# Altium schematic symbol library Other.SchLib: 19 symbols
Pins are listed as number, name and electrical type; pins without a type are passive.

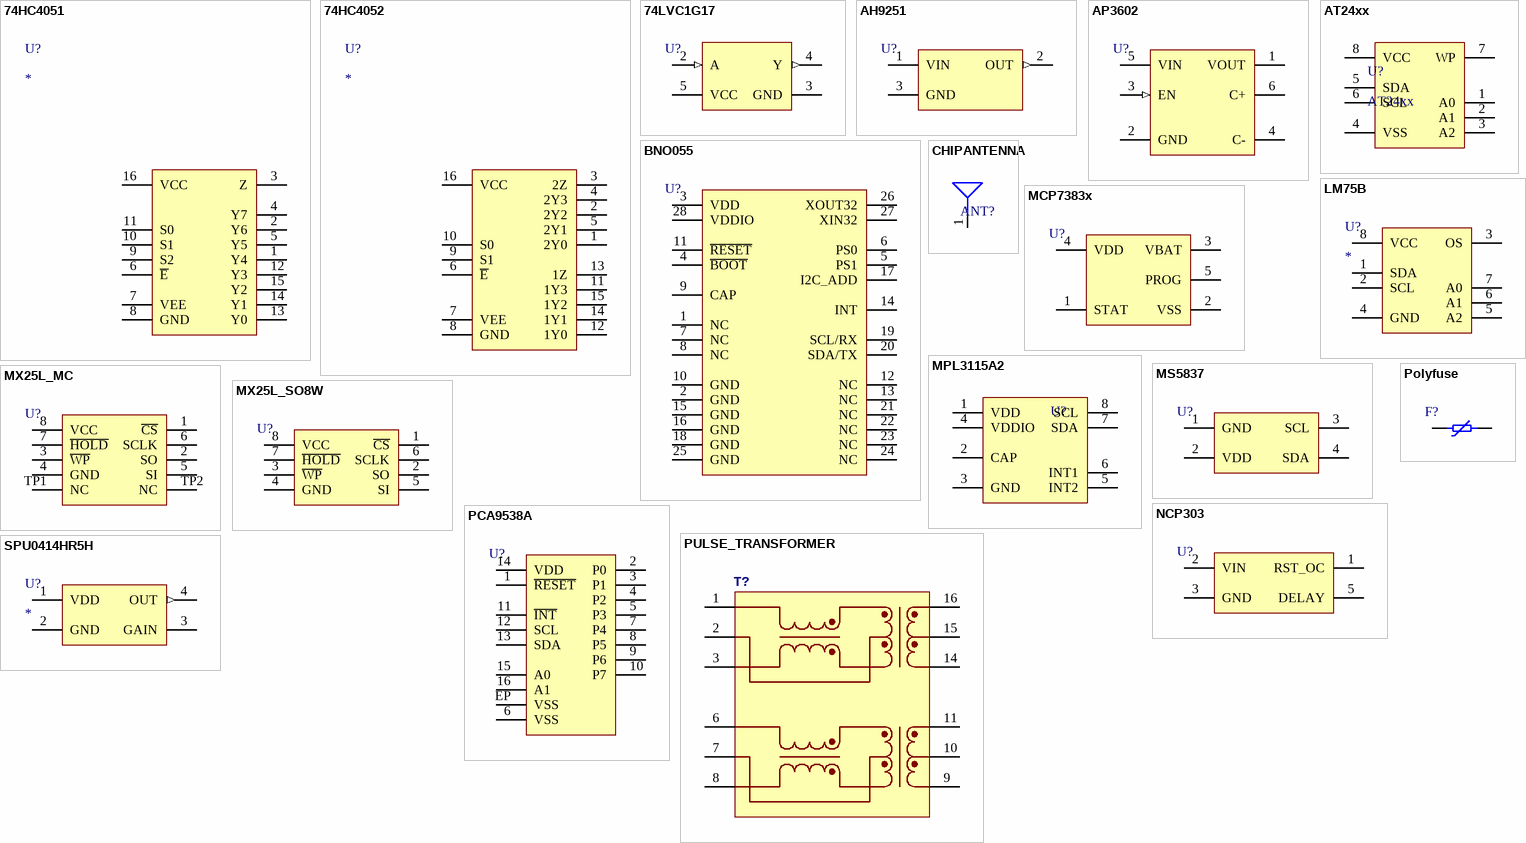
[diagram p0: symbols 74HC4051 to SPU0414HR5H]

## 74HC4051
designator U?
=description
pins: 1 Y4, 2 Y6, 3 Z, 4 Y7, 5 Y5, 6 ~{E}, 7 VEE (power), 8 GND (power), 9 S2, 10 S1, 11 S0, 12 Y3, 13 Y0, 14 Y1, 15 Y2, 16 VCC (power)

## 74HC4052
designator U?
=description
pins: 1 2Y0, 2 2Y2, 3 2Z, 4 2Y3, 5 2Y1, 6 ~{E}, 7 VEE (power), 8 GND (power), 9 S1, 10 S0, 11 1Y3, 12 1Y0, 13 1Z, 14 1Y1, 15 1Y2, 16 VCC (power)

## 74LVC1G17
designator U?
=description
pins: 2 A (in), 3 GND (power), 4 Y (out), 5 VCC (power)

## AH9251
designator U?
=description
pins: 1 VIN (power), 2 OUT (out), 3 GND (power)

## AP3602
designator U?
=description
pins: 1 VOUT (power), 2 GND (power), 3 EN (in), 4 C-, 5 VIN (power), 6 C+

## AT24xx
designator U?
=description
pins: 1 A0, 2 A1, 3 A2, 4 VSS (power), 5 SDA, 6 SCL, 7 WP, 8 VCC (power)

## BNO055
designator U?  (value not drawn)
=description
pins: 1 NC, 2 GND, 3 VDD, 4 ~{BOOT}, 5 PS1, 6 PS0, 7 NC, 8 NC, 9 CAP, 10 GND, 11 ~{RESET}, 12 NC, 13 NC, 14 INT, 15 GND, 16 GND, 17 I2C_ADD, 18 GND, 19 SCL/RX, 20 SDA/TX, 21 NC, 22 NC, 23 NC, 24 NC, 25 GND, 26 XOUT32, 27 XIN32, 28 VDDIO

## CHIPANTENNA
designator ANT?  (value not drawn)
=description
pins: 1

## LM75B
designator U?
=description
pins: 1 SDA, 2 SCL, 3 OS, 4 GND (power), 5 A2, 6 A1, 7 A0, 8 VCC

## MCP7383x
designator U?
=description
pins: 1 STAT, 2 VSS (power), 3 VBAT, 4 VDD (power), 5 PROG

## MPL3115A2
designator U?  (value not drawn)
pins: 1 VDD (power), 2 CAP, 3 GND (power), 4 VDDIO (power), 5 INT2, 6 INT1, 7 SDA, 8 SCL

## MS5837
designator U?
=description; Supplier 1: Digi-Key
footprint MS5837-30BA
pins: 1 GND, 2 VDD (power), 3 SCL, 4 SDA

## MX25L_MC
designator U?
=description
pins: 1 ~{CS}, 2 SO, 3 ~{WP}, 4 GND (power), 5 SI, 6 SCLK, 7 ~{HOLD}, 8 VCC (power), TP1 NC, TP2 NC

## MX25L_SO8W
designator U?
=description
pins: 1 ~{CS}, 2 SO, 3 ~{WP}, 4 GND (power), 5 SI, 6 SCLK, 7 ~{HOLD}, 8 VCC (power)

## NCP303
designator U?
=description
pins: 1 RST_OC (oc), 2 VIN (power), 3 GND (power), 5 DELAY

## PCA9538A
designator U?
=description
pins: 1 ~{RESET}, 2 P0, 3 P1, 4 P2, 5 P3, 6 VSS (power), 7 P4, 8 P5, 9 P6, 10 P7, 11 ~{INT}, 12 SCL, 13 SDA (power), 14 VDD (power), 15 A0 (power), 16 A1 (power), EP VSS

## Polyfuse
designator F?  (value not drawn)
=description
pins: 1, 2

## PULSE_TRANSFORMER
designator T?
=description
pins: 1, 2, 3, 6, 7, 8, 9, 10, 11, 14, 15, 16

## SPU0414HR5H
designator U?
=description
pins: 1 VDD (power), 2 GND (power), 3 GAIN, 4 OUT (out)